# Altium footprint library 主控制.PcbLib: 139 footprints (part 7 of 9)
Each footprint in its own frame and in the unit in brackets; x right, y up, seen from the top. Pads: shape width x height; smd on the part's side, far side on the other; paste and mask are expansions set on the pad; w line width, h text height; cw(c..) or ccw(c..) is an arc to the next point about the centre after c.
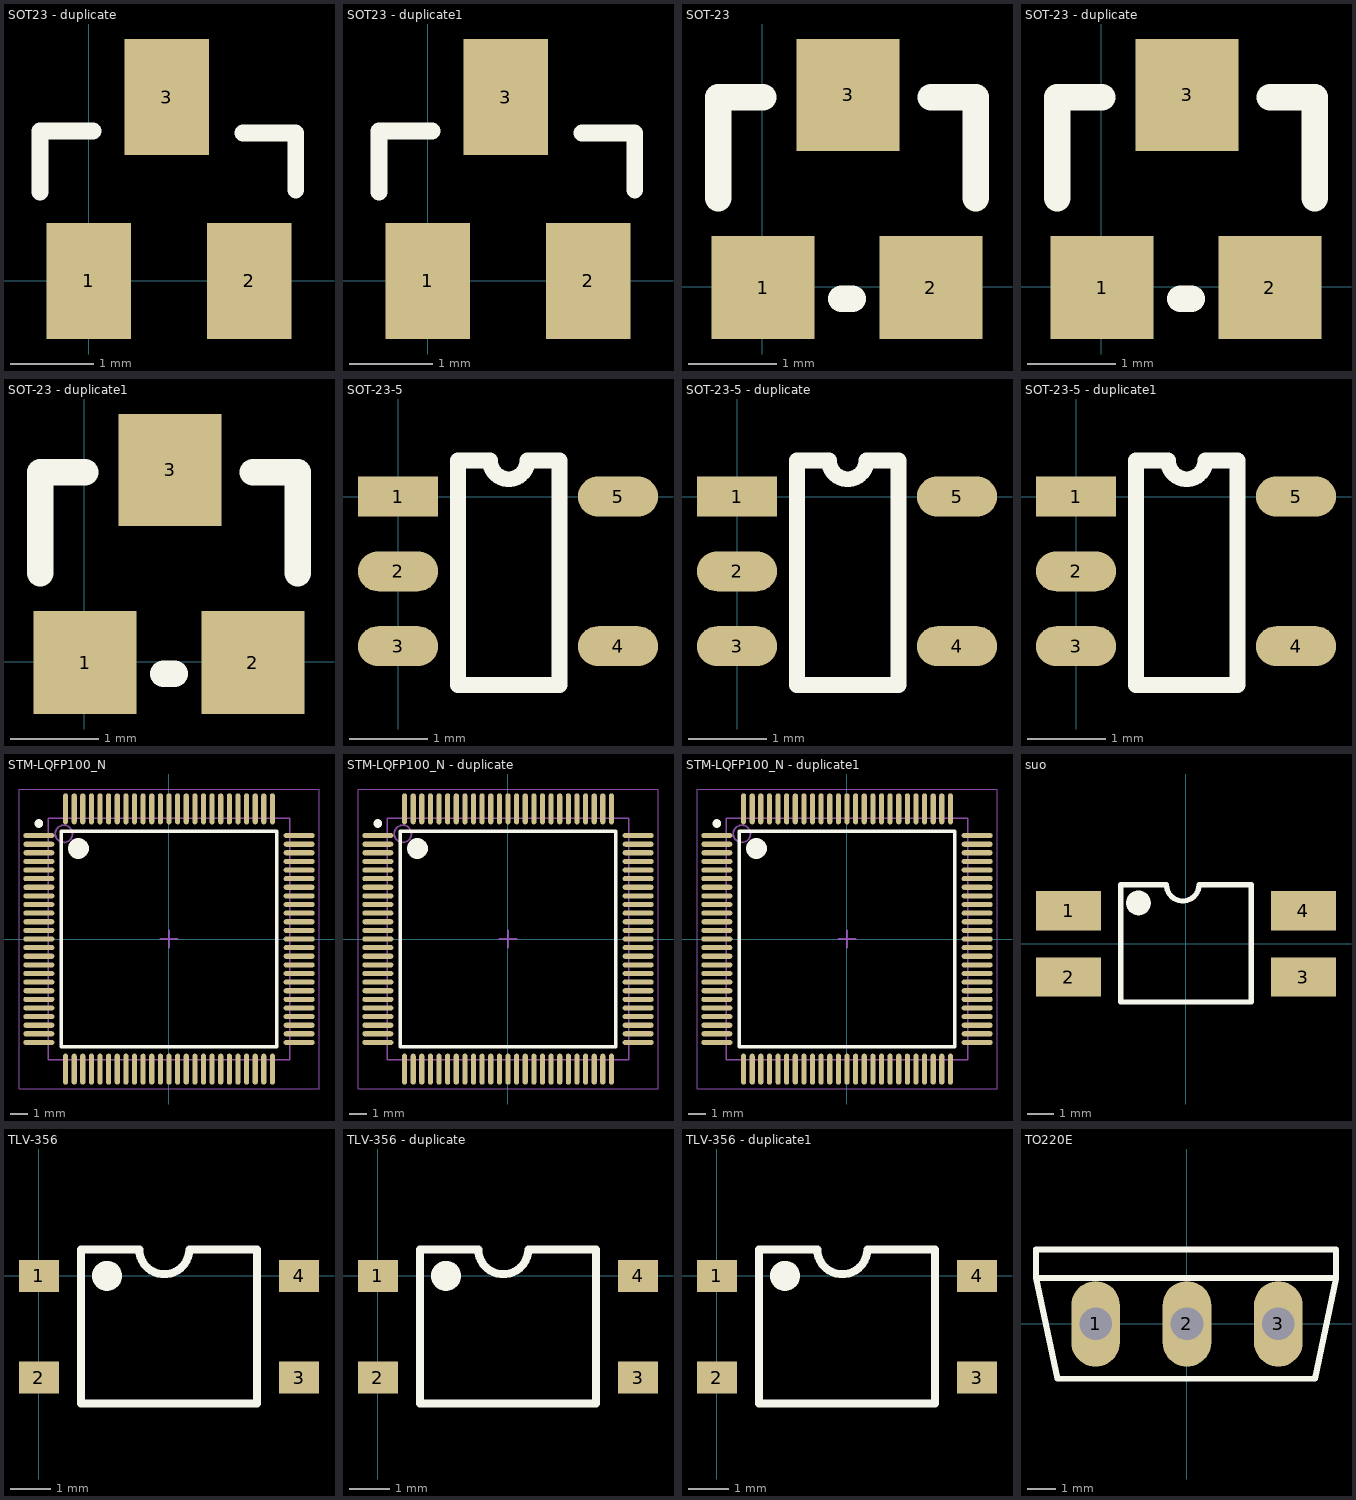
[diagram p6: the footprints below, top view; thin cyan lines are the x and y axes]

## SOT23 - duplicate [mil]
pads (3):
  rect 40x55 smd: 1(0,0) 2(76,0) 3(37,87)
Top Overlay:
  lines w8: -23,42 -23,71 2,71 ; 73,70 97,70 ; 98,43 98,70

## SOT23 - duplicate1 [mil]
pads (3):
  rect 40x55 smd: 1(0,0) 2(76,0) 3(37,87)
Top Overlay:
  lines w8: -23,42 -23,71 2,71 ; 73,70 97,70 ; 98,43 98,70

## SOT-23 [mil]
pads (3):
  rect 46x46 smd: 1(0.24,-0.44) 2(75.24,-0.44)
  rect 46x50 smd: 3(38.24,85.56)
Top Overlay:
  lines w12: -19.76,39.56 -19.76,84.56 0.24,84.56 ; 35.24,-5.44 40.24,-5.44 ; 75.24,84.56 95.24,84.56 95.24,39.56

## SOT-23 - duplicate [mil]
pads (3):
  rect 46x46 smd: 1(0.24,-0.44) 2(75.24,-0.44)
  rect 46x50 smd: 3(38.24,85.56)
Top Overlay:
  lines w12: -19.76,39.56 -19.76,84.56 0.24,84.56 ; 35.24,-5.44 40.24,-5.44 ; 75.24,84.56 95.24,84.56 95.24,39.56

## SOT-23 - duplicate1 [mil]
pads (3):
  rect 46x46 smd: 1(0.24,-0.44) 2(75.24,-0.44)
  rect 46x50 smd: 3(38.24,85.56)
Top Overlay:
  lines w12: -19.76,39.56 -19.76,84.56 0.24,84.56 ; 35.24,-5.44 40.24,-5.44 ; 75.24,84.56 95.24,84.56 95.24,39.56

## SOT-23-5 [mil]
pads (5):
  rect 40x20 smd: 1(0,0)
  oval 40x20 smd: 2(0,-37.4) 3(0,-74.8) 4(110,-74.8) 5(110,0)
Top Overlay:
  lines w7.87: 30,18 30,-94.2 80.7,-94.2 80.7,18 ; 46,18 ccw(c55.35,18) 64.7,18
  lines w8: 30,18 46,18 ; 64.7,18 80.7,18

## SOT-23-5 - duplicate [mil]
pads (5):
  rect 40x20 smd: 1(0,0)
  oval 40x20 smd: 2(0,-37.4) 3(0,-74.8) 4(110,-74.8) 5(110,0)
Top Overlay:
  lines w7.87: 30,18 30,-94.2 80.7,-94.2 80.7,18 ; 46,18 ccw(c55.35,18) 64.7,18
  lines w8: 30,18 46,18 ; 64.7,18 80.7,18

## SOT-23-5 - duplicate1 [mil]
pads (5):
  rect 40x20 smd: 1(0,0)
  oval 40x20 smd: 2(0,-37.4) 3(0,-74.8) 4(110,-74.8) 5(110,0)
Top Overlay:
  lines w7.87: 30,18 30,-94.2 80.7,-94.2 80.7,18 ; 46,18 ccw(c55.35,18) 64.7,18
  lines w8: 30,18 46,18 ; 64.7,18 80.7,18

## STM-LQFP100_N [mm] "Thin QFP, 100-Leads, Body 14x14mm, Pitch 0.5mm, IPC Medium Density"
height 1.6
pads (100):
  oval 1.8x0.3 smd: 1(-7.55,6) 2(-7.55,5.5) 3(-7.55,5) 4(-7.55,4.5) 5(-7.55,4) 6(-7.55,3.5) 7(-7.55,3) 8(-7.55,2.5) 9(-7.55,2) 10(-7.55,1.5) 11(-7.55,1) 12(-7.55,0.5) 13(-7.55,0) 14(-7.55,-0.5) 15(-7.55,-1) 16(-7.55,-1.5) 17(-7.55,-2) 18(-7.55,-2.5) 19(-7.55,-3) 20(-7.55,-3.5) 21(-7.55,-4) 22(-7.55,-4.5) 23(-7.55,-5) 24(-7.55,-5.5) 25(-7.55,-6) 51(7.55,-6) 52(7.55,-5.5) 53(7.55,-5) 54(7.55,-4.5) 55(7.55,-4) 56(7.55,-3.5) 57(7.55,-3) 58(7.55,-2.5) 59(7.55,-2) 60(7.55,-1.5) 61(7.55,-1) 62(7.55,-0.5) 63(7.55,0) 64(7.55,0.5) 65(7.55,1) 66(7.55,1.5) 67(7.55,2) 68(7.55,2.5) 69(7.55,3) 70(7.55,3.5) 71(7.55,4) 72(7.55,4.5) 73(7.55,5) 74(7.55,5.5) 75(7.55,6)
  oval 0.3x1.8 smd: 26(-6,-7.55) 27(-5.5,-7.55) 28(-5,-7.55) 29(-4.5,-7.55) 30(-4,-7.55) 31(-3.5,-7.55) 32(-3,-7.55) 33(-2.5,-7.55) 34(-2,-7.55) 35(-1.5,-7.55) 36(-1,-7.55) 37(-0.5,-7.55) 38(0,-7.55) 39(0.5,-7.55) 40(1,-7.55) 41(1.5,-7.55) 42(2,-7.55) 43(2.5,-7.55) 44(3,-7.55) 45(3.5,-7.55) 46(4,-7.55) 47(4.5,-7.55) 48(5,-7.55) 49(5.5,-7.55) 50(6,-7.55) 76(6,7.55) 77(5.5,7.55) 78(5,7.55) 79(4.5,7.55) 80(4,7.55) 81(3.5,7.55) 82(3,7.55) 83(2.5,7.55) 84(2,7.55) 85(1.5,7.55) 86(1,7.55) 87(0.5,7.55) 88(0,7.55) 89(-0.5,7.55) 90(-1,7.55) 91(-1.5,7.55) 92(-2,7.55) 93(-2.5,7.55) 94(-3,7.55) 95(-3.5,7.55) 96(-4,7.55) 97(-4.5,7.55) 98(-5,7.55) 99(-5.5,7.55) 100(-6,7.55)
Top Overlay:
  circle w0.25: c-7.55,6.7 r0.125
  circle w0.6: c-5.25,5.25 r0.3
  lines w0.2: -6.25,-6.25 -6.25,6.25 6.25,6.25 6.25,-6.25 -6.25,-6.25
Mechanical 13:
  circle w0.1: c-6.1,6.1 r0.5
  lines w0.1: -7,-7 -7,7 7,7 7,-7 -7,-7
Mechanical 15:
  lines w0.05: -8.7,-8.7 -8.7,8.7 8.7,8.7 8.7,-8.7 -8.7,-8.7
  lines w0.1: -0.5,0 0.5,0 ; 0,-0.5 0,0.5
3D body: height 1.6, standoff 0.05, extent -7,-7 7,7

## STM-LQFP100_N - duplicate [mm]
pads (100):
  oval 1.8x0.3 smd: 1(-7.55,6) 2(-7.55,5.5) 3(-7.55,5) 4(-7.55,4.5) 5(-7.55,4) 6(-7.55,3.5) 7(-7.55,3) 8(-7.55,2.5) 9(-7.55,2) 10(-7.55,1.5) 11(-7.55,1) 12(-7.55,0.5) 13(-7.55,0) 14(-7.55,-0.5) 15(-7.55,-1) 16(-7.55,-1.5) 17(-7.55,-2) 18(-7.55,-2.5) 19(-7.55,-3) 20(-7.55,-3.5) 21(-7.55,-4) 22(-7.55,-4.5) 23(-7.55,-5) 24(-7.55,-5.5) 25(-7.55,-6) 51(7.55,-6) 52(7.55,-5.5) 53(7.55,-5) 54(7.55,-4.5) 55(7.55,-4) 56(7.55,-3.5) 57(7.55,-3) 58(7.55,-2.5) 59(7.55,-2) 60(7.55,-1.5) 61(7.55,-1) 62(7.55,-0.5) 63(7.55,0) 64(7.55,0.5) 65(7.55,1) 66(7.55,1.5) 67(7.55,2) 68(7.55,2.5) 69(7.55,3) 70(7.55,3.5) 71(7.55,4) 72(7.55,4.5) 73(7.55,5) 74(7.55,5.5) 75(7.55,6)
  oval 0.3x1.8 smd: 26(-6,-7.55) 27(-5.5,-7.55) 28(-5,-7.55) 29(-4.5,-7.55) 30(-4,-7.55) 31(-3.5,-7.55) 32(-3,-7.55) 33(-2.5,-7.55) 34(-2,-7.55) 35(-1.5,-7.55) 36(-1,-7.55) 37(-0.5,-7.55) 38(0,-7.55) 39(0.5,-7.55) 40(1,-7.55) 41(1.5,-7.55) 42(2,-7.55) 43(2.5,-7.55) 44(3,-7.55) 45(3.5,-7.55) 46(4,-7.55) 47(4.5,-7.55) 48(5,-7.55) 49(5.5,-7.55) 50(6,-7.55) 76(6,7.55) 77(5.5,7.55) 78(5,7.55) 79(4.5,7.55) 80(4,7.55) 81(3.5,7.55) 82(3,7.55) 83(2.5,7.55) 84(2,7.55) 85(1.5,7.55) 86(1,7.55) 87(0.5,7.55) 88(0,7.55) 89(-0.5,7.55) 90(-1,7.55) 91(-1.5,7.55) 92(-2,7.55) 93(-2.5,7.55) 94(-3,7.55) 95(-3.5,7.55) 96(-4,7.55) 97(-4.5,7.55) 98(-5,7.55) 99(-5.5,7.55) 100(-6,7.55)
Top Overlay:
  circle w0.25: c-7.55,6.7 r0.125
  circle w0.6: c-5.25,5.25 r0.3
  lines w0.2: -6.25,-6.25 -6.25,6.25 6.25,6.25 6.25,-6.25 -6.25,-6.25
Mechanical 13:
  circle w0.1: c-6.1,6.1 r0.5
  lines w0.1: -7,-7 -7,7 7,7 7,-7 -7,-7
Mechanical 15:
  lines w0.05: -8.7,-8.7 -8.7,8.7 8.7,8.7 8.7,-8.7 -8.7,-8.7
  lines w0.1: -0.5,0 0.5,0 ; 0,-0.5 0,0.5
3D body: height 1.6, standoff 0.05, extent -7,-7 7,7

## STM-LQFP100_N - duplicate1 [mm]
pads (100):
  oval 1.8x0.3 smd: 1(-7.55,6) 2(-7.55,5.5) 3(-7.55,5) 4(-7.55,4.5) 5(-7.55,4) 6(-7.55,3.5) 7(-7.55,3) 8(-7.55,2.5) 9(-7.55,2) 10(-7.55,1.5) 11(-7.55,1) 12(-7.55,0.5) 13(-7.55,0) 14(-7.55,-0.5) 15(-7.55,-1) 16(-7.55,-1.5) 17(-7.55,-2) 18(-7.55,-2.5) 19(-7.55,-3) 20(-7.55,-3.5) 21(-7.55,-4) 22(-7.55,-4.5) 23(-7.55,-5) 24(-7.55,-5.5) 25(-7.55,-6) 51(7.55,-6) 52(7.55,-5.5) 53(7.55,-5) 54(7.55,-4.5) 55(7.55,-4) 56(7.55,-3.5) 57(7.55,-3) 58(7.55,-2.5) 59(7.55,-2) 60(7.55,-1.5) 61(7.55,-1) 62(7.55,-0.5) 63(7.55,0) 64(7.55,0.5) 65(7.55,1) 66(7.55,1.5) 67(7.55,2) 68(7.55,2.5) 69(7.55,3) 70(7.55,3.5) 71(7.55,4) 72(7.55,4.5) 73(7.55,5) 74(7.55,5.5) 75(7.55,6)
  oval 0.3x1.8 smd: 26(-6,-7.55) 27(-5.5,-7.55) 28(-5,-7.55) 29(-4.5,-7.55) 30(-4,-7.55) 31(-3.5,-7.55) 32(-3,-7.55) 33(-2.5,-7.55) 34(-2,-7.55) 35(-1.5,-7.55) 36(-1,-7.55) 37(-0.5,-7.55) 38(0,-7.55) 39(0.5,-7.55) 40(1,-7.55) 41(1.5,-7.55) 42(2,-7.55) 43(2.5,-7.55) 44(3,-7.55) 45(3.5,-7.55) 46(4,-7.55) 47(4.5,-7.55) 48(5,-7.55) 49(5.5,-7.55) 50(6,-7.55) 76(6,7.55) 77(5.5,7.55) 78(5,7.55) 79(4.5,7.55) 80(4,7.55) 81(3.5,7.55) 82(3,7.55) 83(2.5,7.55) 84(2,7.55) 85(1.5,7.55) 86(1,7.55) 87(0.5,7.55) 88(0,7.55) 89(-0.5,7.55) 90(-1,7.55) 91(-1.5,7.55) 92(-2,7.55) 93(-2.5,7.55) 94(-3,7.55) 95(-3.5,7.55) 96(-4,7.55) 97(-4.5,7.55) 98(-5,7.55) 99(-5.5,7.55) 100(-6,7.55)
Top Overlay:
  circle w0.25: c-7.55,6.7 r0.125
  circle w0.6: c-5.25,5.25 r0.3
  lines w0.2: -6.25,-6.25 -6.25,6.25 6.25,6.25 6.25,-6.25 -6.25,-6.25
Mechanical 13:
  circle w0.1: c-6.1,6.1 r0.5
  lines w0.1: -7,-7 -7,7 7,7 7,-7 -7,-7
Mechanical 15:
  lines w0.05: -8.7,-8.7 -8.7,8.7 8.7,8.7 8.7,-8.7 -8.7,-8.7
  lines w0.1: -0.5,0 0.5,0 ; 0,-0.5 0,0.5
3D body: height 1.6, standoff 0.05, extent -7,-7 7,7

## suo [mm]
pads (4):
  rect 2.5x1.5 smd: 1(-4.5,1.27) 2(-4.5,-1.27) 3(4.5,-1.27) 4(4.5,1.27)
Top Overlay:
  circle w0.5: c-1.824,1.57 r0.224
  lines w0.2: -0.8,2.27 -2.5,2.27 -2.5,-2.23 2.5,-2.23 2.5,2.27 0.5,2.27 cw(c-0.125,2.27) -0.75,2.27
3D body "User Library-4-SMD.STEP": height 3.75, standoff -0.01, extent -5.02,-2.299 5.14,2.299

## TLV-356 [mm]
pads (4):
  rect 1x0.8 smd: 1(0,0) 2(0,-2.54) 3(6.5,-2.54) 4(6.5,0)
Top Overlay:
  circle w0.5: c1.7,0 r0.124
  lines w0.2: 2.457,0.665 1.05,0.665 1.05,-3.195 5.45,-3.195 5.45,0.665 3.757,0.665 cw(c3.132,0.665) 2.507,0.665

## TLV-356 - duplicate [mm]
pads (4):
  rect 1x0.8 smd: 1(0,0) 2(0,-2.54) 3(6.5,-2.54) 4(6.5,0)
Top Overlay:
  circle w0.5: c1.7,0 r0.124
  lines w0.2: 2.457,0.665 1.05,0.665 1.05,-3.195 5.45,-3.195 5.45,0.665 3.757,0.665 cw(c3.132,0.665) 2.507,0.665

## TLV-356 - duplicate1 [mm]
pads (4):
  rect 1x0.8 smd: 1(0,0) 2(0,-2.54) 3(6.5,-2.54) 4(6.5,0)
Top Overlay:
  circle w0.5: c1.7,0 r0.124
  lines w0.2: 2.457,0.665 1.05,0.665 1.05,-3.195 5.45,-3.195 5.45,0.665 3.757,0.665 cw(c3.132,0.665) 2.507,0.665

## TO220E [mil]
pads (3):
  oval 67x118 hole 45: 1(-125.76,-0.44) 2(0.24,-0.44) 3(126.24,-0.44)
Top Overlay:
  lines w8: -197.23,102.03 205.77,102.03 205.77,62.03 176.77,-75.97 -178.23,-75.97 -207.95,63.02 ; -192.21,102.03 -207.59,102.03 -207.95,102.39 -207.95,63.02 ; 204.78,63.02 -207.95,63.02